# Altium schematic symbol library PowerMonitoring.SchLib: 16 symbols
Pins are listed as number, name and electrical type; pins without a type are passive.

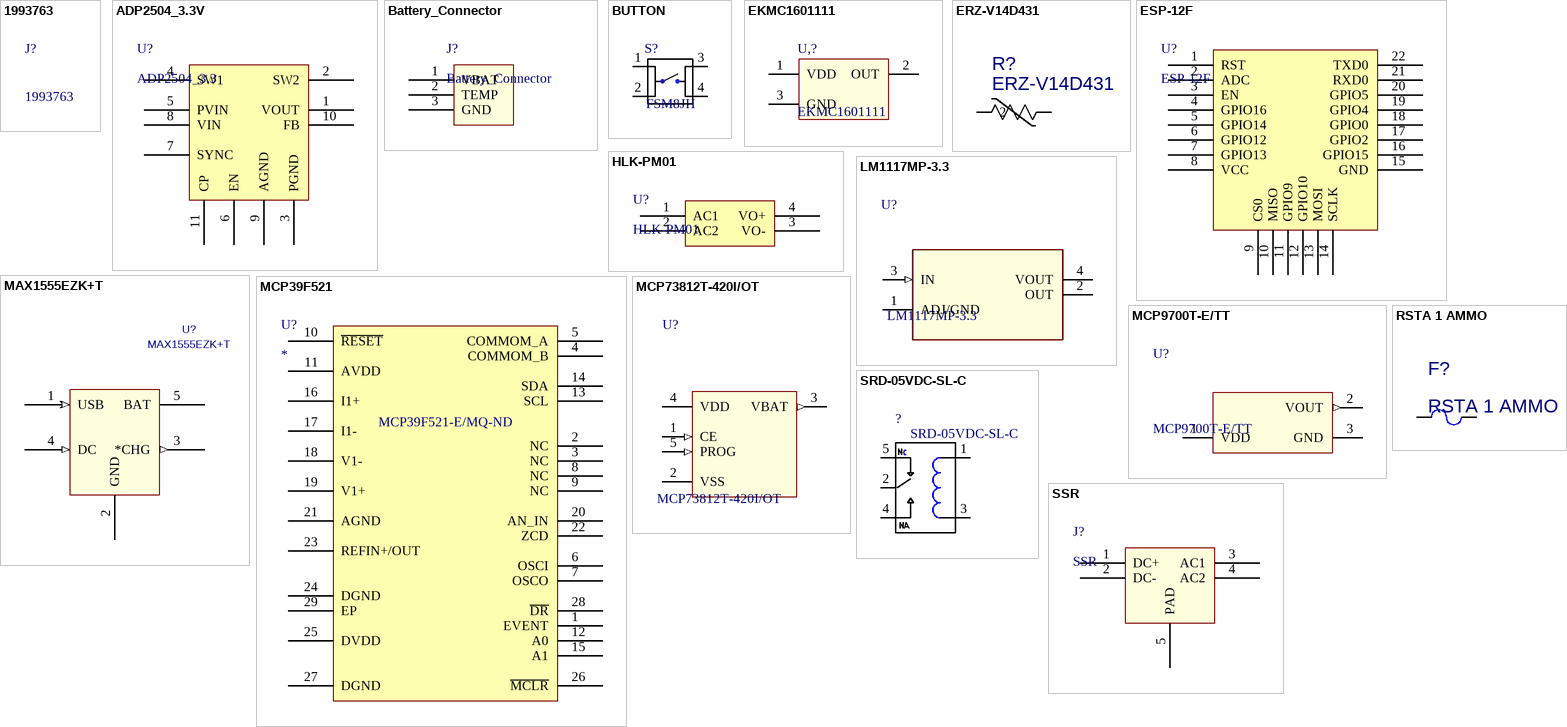
[diagram p0: symbols 1993763 to SSR]

## 1993763
designator J?
PCB Terminal Block 1993763 PCB Terminal Block 1993763; Manufacturer_Name: Phoenix Contact; Manufacturer_Part_Number: 1993763; RS Part Number: 8553173; RS Price/Stock: http://uk.rs-online.com/web/p/products/8553173; Mouser Part Number: 651-1993763; Mouser Price/Stock: https://www.mouser.com/Search/Refine.aspx?Keyword=651-1993763; Datasheet Link: http://docs-emea.rs-online.com/webdocs/13ab/0900766b813abc3d.pdf
footprint 1993763

## ADP2504_3.3V
designator U?, comment ADP2504_3.3
Buck-Boost Switching Regulator IC Positive Fixed 3.3V 1 Output 1A 10-WFDFN Exposed Pad, CSP
footprint ADP2504 (SON50P300X300X80-11N)
pins: 1 VOUT, 2 SW2, 3 PGND, 4 SW1, 5 PVIN, 6 EN, 7 SYNC, 8 VIN, 9 AGND, 10 FB, 11 CP

## Battery_Connector
designator J?
footprint Battery_Connector
pins: 1 VBAT, 2 TEMP, 3 GND

## BUTTON
designator S?, comment FSM8JH
Switch, Pushbutton, Tactile, SPST, Thru Hole, Vertical, 6MM, Black; MF: TE Connectivity / Alcoswitch; Availability: Good; Price: 0.07 USD; Package: None; MP: FSM8JH; SnapEDA_Link: https://www.snapeda.com/parts/FSM8JH/TE%2520Connectivity%2520/%2520Alcoswitch/view-part/?ref=snap; Value: *
footprint SW_FSM8JH
pins: 1, 2, 3, 4

## EKMC1601111
designator U,?
Board Mount Motion & Position Sensors Digital 170uA 5m White; Manufacturer_Name: Panasonic; Manufacturer_Part_Number: EKMC1601111; RS Part Number: 1357095; RS Price/Stock: http://uk.rs-online.com/web/p/products/1357095; Arrow Part Number: EKMC1601111; Arrow Price/Stock: https://www.arrow.com/en/products/ekmc1601111/panasonic; Datasheet Link: http://www3.panasonic.biz/ac/e/search_num/index.jsp?c=detail&part_no=EKMC1601111
footprint EKMC1601111
pins: 1 VDD, 2 OUT, 3 GND

## ERZ-V14D431
designator R?
C: Copyright (C) 2015 Accelerated Designs. All rights reserved; Vendor: Panasonic; Built_By: EMA_UL_Team; Manufacturer_Part_Number: ERZ-V14D431; Value: ERZ-V14D431
footprint VARISTOR (RES_ERZV14_155X6)
pins: 1, 2
1 alternate drawing of the same symbol

## ESP-12F
designator U?
footprint XCVR_ESP8266-12E/ESP-12E
pins: 1 RST, 2 ADC, 3 EN, 4 GPIO16, 5 GPIO14, 6 GPIO12, 7 GPIO13, 8 VCC, 9 CS0, 10 MISO, 11 GPIO9, 12 GPIO10, 13 MOSI, 14 SCLK, 15 GND, 16 GPIO15, 17 GPIO2, 18 GPIO0, 19 GPIO4, 20 GPIO5, 21 RXD0, 22 TXD0

## HLK-PM01
designator U?
footprint HLK-PM01 (5V/3W POWER SUPPLY)
pins: 1 AC1, 2 AC2, 3 VO-, 4 VO+

## LM1117MP-3.3
designator U?
LDO Regulator Pos 3.3V 0.8A 4-Pin_3+Tab_ SOT-223 T/R; MF: Texas Instruments; Package: SOT-223 Texas Instruments; MP: LM1117MP-3.3; Availability: Good; SnapEDA_Link: https://www.snapeda.com/parts/LM1117MP-3.3/Texas%20Instruments/view-part/?ref=snap; Price: 0.62 USD; Value: *
footprint SOT230P696X180-4N
footprint LM1117 (SOT230P696X180-4N)
pins: 1 ADJ/GND, 2 OUT (power), 3 IN (in), 4 VOUT (power)

## MAX1555EZK+T
designator U?
Charger IC Lithium-Ion TSOT-23-5; C: Copyright (C) 2015 Accelerated Designs. All rights reserved; Vendor: Maxim Integrated Products; Built_By: EMA_UL_Team; Value: MAX1555EZK+T; Manufacturer_Part_Number: MAX1555EZK+T
footprint MAX1555
pins: 1 USB (in), 2 GND (power), 3 *CHG (out), 4 DC (in), 5 BAT (power)

## MCP39F521
designator U?  Supplier Part Number 1: MCP39F521-E/MQ-ND
Supplier 1: Digi-Key
footprint MCP39F521 (QFN50P500X500X100-29N)
pins: 1 EVENT, 2 NC, 3 NC, 4 COMMOM_B, 5 COMMOM_A, 6 OSCI, 7 OSCO, 8 NC, 9 NC, 10 ~{RESET}, 11 AVDD, 12 A0, 13 SCL, 14 SDA, 15 A1, 16 I1+, 17 I1-, 18 V1-, 19 V1+, 20 AN_IN, 21 AGND, 22 ZCD, 23 REFIN+/OUT, 24 DGND, 25 DVDD, 26 ~{MCLR}, 27 DGND, 28 ~{DR}, 29 EP

## MCP9700T-E/TT
designator U?
MCP9700 Series 5 V -40 to +125Â°C Low-Power Linear Active Thermistor; MF: Microchip; SnapEDA_Link: https://www.snapeda.com/parts/MCP9700T-E/TT/Microchip/view-part/?ref=snap; Price: None; Package: SOT-23-3 Microchip; MP: MCP9700T-E/TT; Availability: Unavailable; Value: *
footprint MCP9700 (SOT95P237X112-3N)
pins: 1 VDD (power), 2 VOUT (out), 3 GND (power)

## MCP73812T-420I/OT
designator U?
Sot23 Simple Low-Cost Integrated Li-Ion/Li-Poly Charge Mgnt Controller, 4.2v Vre; MF: Microchip; MP: MCP73812T-420I/OT; Package: SOT-23 Microchip; Availability: Good; SnapEDA_Link: https://www.snapeda.com/parts/MCP73812T-420I/OT/Microchip/view-part/?ref=snap; Price: 0.49 USD; Value: *
footprint SOT95P270X145-5N
pins: 1 CE (in), 2 VSS (power), 3 VBAT (out), 4 VDD (power), 5 PROG (in)

## RSTA 1 AMMO
designator F?
Built_By: EMA_UL_Team; Vendor: BelFuse; Value: RSTA 1 AMMO; Manufacturer_Part_Number: RSTA 1 AMMO
footprint RSTA
pins: 1, 2
1 alternate drawing of the same symbol

## SRD-05VDC-SL-C
designator ?
5V Trigger Relay Module For Arduino And Raspberry Pi 5V Trigger Relay Module For Arduino And Raspberry Pi; MF: MCM Electronics; Price: None; MP: SRD-05VDC-SL-C; Package: None; Availability: Unavailable; SnapEDA_Link: https://www.snapeda.com/parts/SRD-05VDC-SL-C/MCM%20Electronics/view-part/?ref=snap; Value: *
footprint srd-05vdc
pins: 1, 2, 3, 4, 5

## SSR
designator J?
footprint SSR-40
pins: 1 DC+, 2 DC-, 3 AC1, 4 AC2, 5 PAD